# EAGLE library part A4980 (library logic-supply)
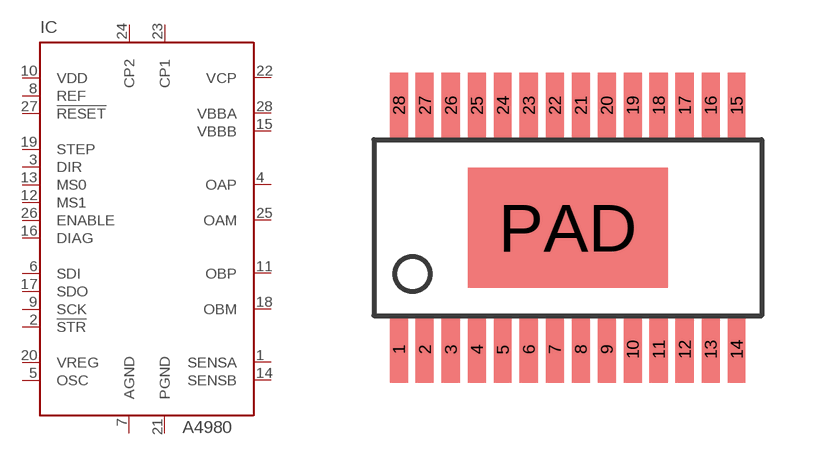
[diagram p22: symbol with the pads of TSSOP28_PAD; footprint TSSOP28_PAD]

Designator prefix IC

## A4980LP  [TSSOP28_PAD]
1  SENSA
2  !STR
3  DIR
4  OAP
5  OSC
6  SDI
7  AGND
8  REF
9  SCK
10  VDD
11  OBP
12  MS1
13  MS0
14  SENSB
15  VBBB
16  DIAG
17  SDO
18  OBM
19  STEP
20  VREG
21  PGND
22  VCP
23  CP1
24  CP2
25  OAM
26  ENABLE
27  !RESET
28  VBBA

## Footprint TSSOP28_PAD (pad centres in mm)
smd 0.45 x 1.65: 1 -4.225,-3.05; 2 -3.575,-3.05; 3 -2.925,-3.05; 4 -2.275,-3.05; 5 -1.625,-3.05; 6 -0.975,-3.05; 7 -0.325,-3.05; 8 0.325,-3.05; 9 0.975,-3.05; 10 1.625,-3.05; 11 2.275,-3.05; 12 2.925,-3.05; 13 3.575,-3.05; 14 4.225,-3.05; 15 4.225,3.05; 16 3.575,3.05; 17 2.925,3.05; 18 2.275,3.05; 19 1.625,3.05; 20 0.975,3.05; 21 0.325,3.05; 22 -0.325,3.05; 23 -0.975,3.05; 24 -1.625,3.05; 25 -2.275,3.05; 26 -2.925,3.05; 27 -3.575,3.05; 28 -4.225,3.05
smd 5 x 3: PAD 0,0